# Altium schematic symbol library Fuse_Wurth_696101000002_eec.SchLib: 1 symbol
Pins are listed as number, name and electrical type; pins without a type are passive.

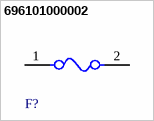
[diagram p0: symbol 696101000002]

## 696101000002
designator F?  (value not drawn)
pins: 1, 2